# Altium integrated library ALTIUM-WE-LHMI-rev18a.IntLib: 164 symbols (part 3 of 3)
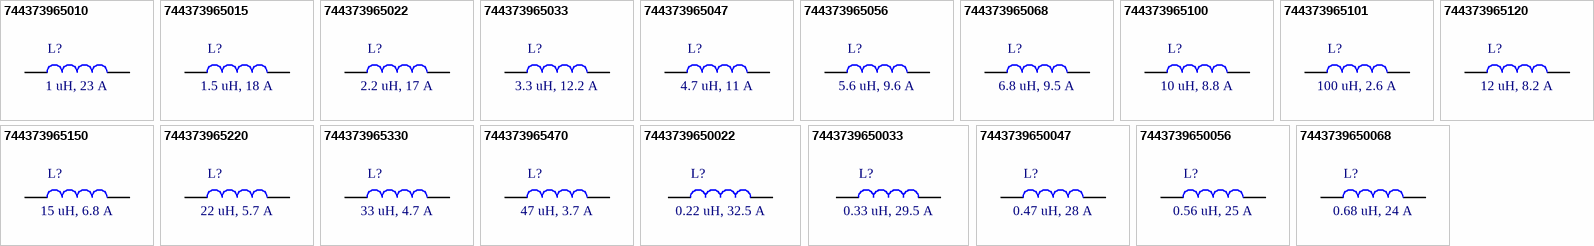
[diagram p12: symbols 744373965010 to 7443739650068]

## 744373965033
designator L?, comment 3.3 uH, 12.2 A
SMT Power Inductor WE-LHMI, size 1365, 3.3 uH, 12.2 A; Part Number: 744373965033; Rated Current: 12.2 A; Inductance: 3.3 uH; DC Resistance max.: 6.8 mOhm; Saturation Current: 32 A; Self Resonant Frequency: 20.3 MHz; ComponentLink1Description: Manufacturer; ComponentLink1URL: http://www.we-online.de; ComponentLink2Description: Datasheet; ComponentLink2URL: https://katalog.we-online.com/pbs/datasheet/744373965033.pdf; Published Date: December 2018; Publisher: Wurth Elektronik; Size: 1365; Operating Temperature: -40 to +125 degC; Mounting Technology: SMT; Packaging: Tape and Reel
footprint WE-LHMI_1365
pins: 1, 2

## 744373965047
designator L?, comment 4.7 uH, 11 A
SMT Power Inductor WE-LHMI, size 1365, 4.7 uH, 11 A; Part Number: 744373965047; Rated Current: 11 A; Inductance: 4.7 uH; DC Resistance max.: 8.4 mOhm; Saturation Current: 27 A; Self Resonant Frequency: 13.9 MHz; ComponentLink1Description: Manufacturer; ComponentLink1URL: http://www.we-online.de; ComponentLink2Description: Datasheet; ComponentLink2URL: https://katalog.we-online.com/pbs/datasheet/744373965047.pdf; Published Date: December 2018; Publisher: Wurth Elektronik; Size: 1365; Operating Temperature: -40 to +125 degC; Mounting Technology: SMT; Packaging: Tape and Reel
footprint WE-LHMI_1365
pins: 1, 2

## 744373965056
designator L?, comment 5.6 uH, 9.6 A
SMT Power Inductor WE-LHMI, size 1365, 5.6 uH, 9.6 A; Part Number: 744373965056; Rated Current: 9.6 A; Inductance: 5.6 uH; DC Resistance max.: 10 mOhm; Saturation Current: 25 A; Self Resonant Frequency: 13.7 MHz; ComponentLink1Description: Manufacturer; ComponentLink1URL: http://www.we-online.de; ComponentLink2Description: Datasheet; ComponentLink2URL: https://katalog.we-online.com/pbs/datasheet/744373965056.pdf; Published Date: December 2018; Publisher: Wurth Elektronik; Size: 1365; Operating Temperature: -40 to +125 degC; Mounting Technology: SMT; Packaging: Tape and Reel
footprint WE-LHMI_1365
pins: 1, 2

## 744373965068
designator L?, comment 6.8 uH, 9.5 A
SMT Power Inductor WE-LHMI, size 1365, 6.8 uH, 9.5 A; Part Number: 744373965068; Rated Current: 9.5 A; Inductance: 6.8 uH; DC Resistance max.: 11.6 mOhm; Saturation Current: 23 A; Self Resonant Frequency: 11.6 MHz; ComponentLink1Description: Manufacturer; ComponentLink1URL: http://www.we-online.de; ComponentLink2Description: Datasheet; ComponentLink2URL: https://katalog.we-online.com/pbs/datasheet/744373965068.pdf; Published Date: December 2018; Publisher: Wurth Elektronik; Size: 1365; Operating Temperature: -40 to +125 degC; Mounting Technology: SMT; Packaging: Tape and Reel
footprint WE-LHMI_1365
pins: 1, 2

## 744373965100
designator L?, comment 10 uH, 8.8 A
SMT Power Inductor WE-LHMI, size 1365, 10 uH, 8.8 A; Part Number: 744373965100; Rated Current: 8.8 A; Inductance: 10 uH; DC Resistance max.: 16.5 mOhm; Saturation Current: 20.3 A; Self Resonant Frequency: 8 MHz; ComponentLink1Description: Manufacturer; ComponentLink1URL: http://www.we-online.de; ComponentLink2Description: Datasheet; ComponentLink2URL: https://katalog.we-online.com/pbs/datasheet/744373965100.pdf; Published Date: December 2018; Publisher: Wurth Elektronik; Size: 1365; Operating Temperature: -40 to +125 degC; Mounting Technology: SMT; Packaging: Tape and Reel
footprint WE-LHMI_1365
pins: 1, 2

## 744373965101
designator L?, comment 100 uH, 2.6 A
SMT Power Inductor WE-LHMI, size 1365, 100 uH, 2.6 A; Part Number: 744373965101; Rated Current: 2.6 A; Inductance: 100 uH; DC Resistance max.: 165 mOhm; Saturation Current: 5.2 A; Self Resonant Frequency: 2.4 MHz; ComponentLink1Description: Manufacturer; ComponentLink1URL: http://www.we-online.de; ComponentLink2Description: Datasheet; ComponentLink2URL: https://katalog.we-online.com/pbs/datasheet/744373965101.pdf; Published Date: December 2018; Publisher: Wurth Elektronik; Size: 1365; Operating Temperature: -40 to +125 degC; Mounting Technology: SMT; Packaging: Tape and Reel
footprint WE-LHMI_1365
pins: 1, 2

## 744373965120
designator L?, comment 12 uH, 8.2 A
SMT Power Inductor WE-LHMI, size 1365, 12 uH, 8.2 A; Part Number: 744373965120; Rated Current: 8.2 A; Inductance: 12 uH; DC Resistance max.: 20 mOhm; Saturation Current: 19.2 A; Self Resonant Frequency: 7.6 MHz; ComponentLink1Description: Manufacturer; ComponentLink1URL: http://www.we-online.de; ComponentLink2Description: Datasheet; ComponentLink2URL: https://katalog.we-online.com/pbs/datasheet/744373965120.pdf; Published Date: December 2018; Publisher: Wurth Elektronik; Size: 1365; Operating Temperature: -40 to +125 degC; Mounting Technology: SMT; Packaging: Tape and Reel
footprint WE-LHMI_1365
pins: 1, 2

## 744373965150
designator L?, comment 15 uH, 6.8 A
SMT Power Inductor WE-LHMI, size 1365, 15 uH, 6.8 A; Part Number: 744373965150; Rated Current: 6.8 A; Inductance: 15 uH; DC Resistance max.: 28 mOhm; Saturation Current: 15 A; Self Resonant Frequency: 7.5 MHz; ComponentLink1Description: Manufacturer; ComponentLink1URL: http://www.we-online.de; ComponentLink2Description: Datasheet; ComponentLink2URL: https://katalog.we-online.com/pbs/datasheet/744373965150.pdf; Published Date: December 2018; Publisher: Wurth Elektronik; Size: 1365; Operating Temperature: -40 to +125 degC; Mounting Technology: SMT; Packaging: Tape and Reel
footprint WE-LHMI_1365
pins: 1, 2

## 744373965220
designator L?, comment 22 uH, 5.7 A
SMT Power Inductor WE-LHMI, size 1365, 22 uH, 5.7 A; Part Number: 744373965220; Rated Current: 5.7 A; Inductance: 22 uH; DC Resistance max.: 37 mOhm; Saturation Current: 10.2 A; Self Resonant Frequency: 5.4 MHz; ComponentLink1Description: Manufacturer; ComponentLink1URL: http://www.we-online.de; ComponentLink2Description: Datasheet; ComponentLink2URL: https://katalog.we-online.com/pbs/datasheet/744373965220.pdf; Published Date: December 2018; Publisher: Wurth Elektronik; Size: 1365; Operating Temperature: -40 to +125 degC; Mounting Technology: SMT; Packaging: Tape and Reel
footprint WE-LHMI_1365
pins: 1, 2

## 744373965330
designator L?, comment 33 uH, 4.7 A
SMT Power Inductor WE-LHMI, size 1365, 33 uH, 4.7 A; Part Number: 744373965330; Rated Current: 4.7 A; Inductance: 33 uH; DC Resistance max.: 58 mOhm; Saturation Current: 10.1 A; Self Resonant Frequency: 4.4 MHz; ComponentLink1Description: Manufacturer; ComponentLink1URL: http://www.we-online.de; ComponentLink2Description: Datasheet; ComponentLink2URL: https://katalog.we-online.com/pbs/datasheet/744373965330.pdf; Published Date: December 2018; Publisher: Wurth Elektronik; Size: 1365; Operating Temperature: -40 to +125 degC; Mounting Technology: SMT; Packaging: Tape and Reel
footprint WE-LHMI_1365
pins: 1, 2

## 744373965470
designator L?, comment 47 uH, 3.7 A
SMT Power Inductor WE-LHMI, size 1365, 47 uH, 3.7 A; Part Number: 744373965470; Rated Current: 3.7 A; Inductance: 47 uH; DC Resistance max.: 90 mOhm; Saturation Current: 9.5 A; Self Resonant Frequency: 3.8 MHz; ComponentLink1Description: Manufacturer; ComponentLink1URL: http://www.we-online.de; ComponentLink2Description: Datasheet; ComponentLink2URL: https://katalog.we-online.com/pbs/datasheet/744373965470.pdf; Published Date: December 2018; Publisher: Wurth Elektronik; Size: 1365; Operating Temperature: -40 to +125 degC; Mounting Technology: SMT; Packaging: Tape and Reel
footprint WE-LHMI_1365
pins: 1, 2

## 7443739650022
designator L?, comment 0.22 uH, 32.5 A
SMT Power Inductor WE-LHMI, size 1365, 0.22 uH, 32.5 A; Part Number: 7443739650022; Rated Current: 32.5 A; Inductance: 0.22 uH; DC Resistance max.: 0.6 mOhm; Saturation Current: >120 A; Self Resonant Frequency: 112.3 MHz; ComponentLink1Description: Manufacturer; ComponentLink1URL: http://www.we-online.de; ComponentLink2Description: Datasheet; ComponentLink2URL: https://katalog.we-online.com/pbs/datasheet/7443739650022.pdf; Published Date: December 2018; Publisher: Wurth Elektronik; Size: 1365; Operating Temperature: -40 to +125 degC; Mounting Technology: SMT; Packaging: Tape and Reel
footprint WE-LHMI_1365
pins: 1, 2

## 7443739650033
designator L?, comment 0.33 uH, 29.5 A
SMT Power Inductor WE-LHMI, size 1365, 0.33 uH, 29.5 A; Part Number: 7443739650033; Rated Current: 29.5 A; Inductance: 0.33 uH; DC Resistance max.: 0.8 mOhm; Saturation Current: 77.3 A; Self Resonant Frequency: 74.7 MHz; ComponentLink1Description: Manufacturer; ComponentLink1URL: http://www.we-online.de; ComponentLink2Description: Datasheet; ComponentLink2URL: https://katalog.we-online.com/pbs/datasheet/7443739650033.pdf; Published Date: December 2018; Publisher: Wurth Elektronik; Size: 1365; Operating Temperature: -40 to +125 degC; Mounting Technology: SMT; Packaging: Tape and Reel
footprint WE-LHMI_1365
pins: 1, 2

## 7443739650047
designator L?, comment 0.47 uH, 28 A
SMT Power Inductor WE-LHMI, size 1365, 0.47 uH, 28 A; Part Number: 7443739650047; Rated Current: 28 A; Inductance: 0.47 uH; DC Resistance max.: 1.2 mOhm; Saturation Current: 86.5 A; Self Resonant Frequency: 60 MHz; ComponentLink1Description: Manufacturer; ComponentLink1URL: http://www.we-online.de; ComponentLink2Description: Datasheet; ComponentLink2URL: https://katalog.we-online.com/pbs/datasheet/7443739650047.pdf; Published Date: December 2018; Publisher: Wurth Elektronik; Size: 1365; Operating Temperature: -40 to +125 degC; Mounting Technology: SMT; Packaging: Tape and Reel
footprint WE-LHMI_1365
pins: 1, 2

## 7443739650056
designator L?, comment 0.56 uH, 25 A
SMT Power Inductor WE-LHMI, size 1365, 0.56 uH, 25 A; Part Number: 7443739650056; Rated Current: 25 A; Inductance: 0.56 uH; DC Resistance max.: 1.2 mOhm; Saturation Current: 54 A; Self Resonant Frequency: 51.7 MHz; ComponentLink1Description: Manufacturer; ComponentLink1URL: http://www.we-online.de; ComponentLink2Description: Datasheet; ComponentLink2URL: https://katalog.we-online.com/pbs/datasheet/7443739650056.pdf; Published Date: December 2018; Publisher: Wurth Elektronik; Size: 1365; Operating Temperature: -40 to +125 degC; Mounting Technology: SMT; Packaging: Tape and Reel
footprint WE-LHMI_1365
pins: 1, 2

## 7443739650068
designator L?, comment 0.68 uH, 24 A
SMT Power Inductor WE-LHMI, size 1365, 0.68 uH, 24 A; Part Number: 7443739650068; Rated Current: 24 A; Inductance: 0.68 uH; DC Resistance max.: 1.5 mOhm; Saturation Current: 53 A; Self Resonant Frequency: 51.1 MHz; ComponentLink1Description: Manufacturer; ComponentLink1URL: http://www.we-online.de; ComponentLink2Description: Datasheet; ComponentLink2URL: https://katalog.we-online.com/pbs/datasheet/7443739650068.pdf; Published Date: December 2018; Publisher: Wurth Elektronik; Size: 1365; Operating Temperature: -40 to +125 degC; Mounting Technology: SMT; Packaging: Tape and Reel
footprint WE-LHMI_1365
pins: 1, 2